# EAGLE library part SWITCH_JS202011SCQN (library Swarm)
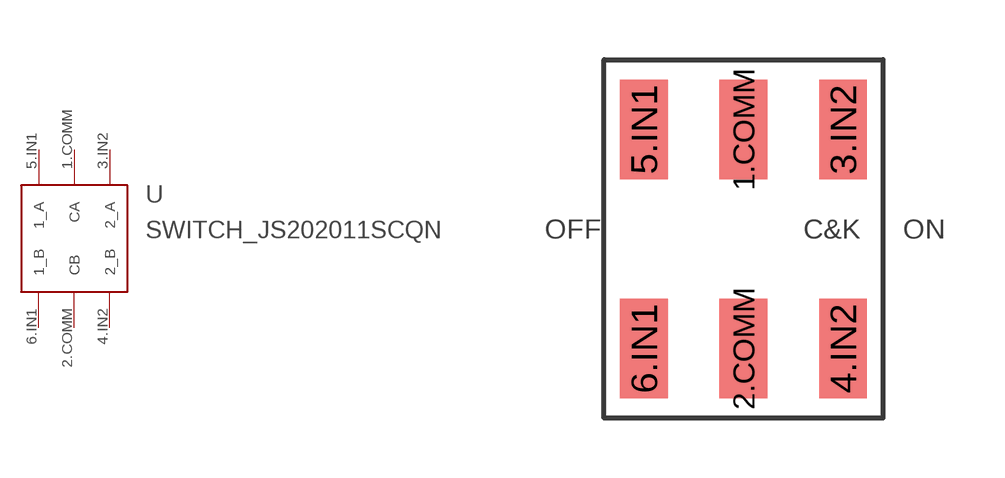
[diagram p10: symbol with the pads of SWITCH_JS202011SCQN; footprint SWITCH_JS202011SCQN]

Designator prefix -

## SWITCH_JS202011SCQN  [SWITCH_JS202011SCQN]
1.COMM  CA
2.COMM  CB
3.IN2  2_A
4.IN2  2_B
5.IN1  1_A
6.IN1  1_B

## Footprint SWITCH_JS202011SCQN (pad centres in mm)
smd 1.2 x 2.5: 1.COMM 0,2.75; 2.COMM 0,-2.75; 3.IN2 2.5,2.75; 4.IN2 2.5,-2.75; 5.IN1 -2.5,2.75; 6.IN1 -2.5,-2.75